# EAGLE library part RASPI_BOARD_AB (library raspberrypi_bastelstube_v13)
Raspberry Pi GPIO connector with markings for the outer dimensions of the Raspberry Pi board model A or B with different sets of drill holes or mounting pads for model B Revision 2.0
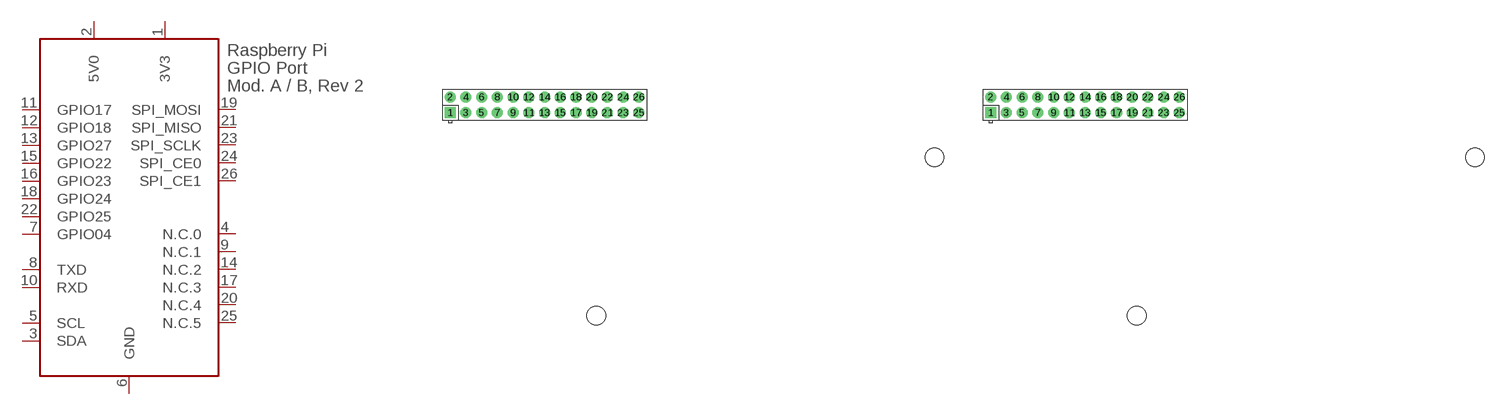
[diagram p1: symbol with the pads of RASPI_BOARD_AB_EDGES_2DRILL; footprints RASPI_BOARD_AB_EDGES_2DRILL, RASPI_BOARD_AB_FULL]

Designator prefix X

## RASPI_BOARD_AB_E2  [RASPI_BOARD_AB_EDGES_2DRILL]
1  3V3  pwr
2  5V0  pwr
3  SDA
4  N.C.0  nc
5  SCL
6  GND  pwr
7  GPIO04
8  TXD
9  N.C.1  nc
10  RXD
11  GPIO17
12  GPIO18
13  GPIO27
14  N.C.2  nc
15  GPIO22
16  GPIO23
17  N.C.3  nc
18  GPIO24
19  SPI_MOSI
20  N.C.4  nc
21  SPI_MISO
22  GPIO25
23  SPI_SCLK
24  SPI_CE0
25  N.C.5  nc
26  SPI_CE1

## RASPI_BOARD_AB_F  [RASPI_BOARD_AB_FULL]
Pads as for RASPI_BOARD_AB_EDGES_2DRILL

## RASPI_BOARD_AB_E1  [RASPI_BOARD_AB_EDGES_1DRILL]
Pads as for RASPI_BOARD_AB_EDGES_2DRILL

## RASPI_BOARD_AB_TD  [RASPI_BOARD_AB_THIN_DRILL]
Pads as for RASPI_BOARD_AB_EDGES_2DRILL

## RASPI_BOARD_AB_E1P  [RASPI_BOARD_AB_EDGES_1DRILL_PAD]
Pads as for RASPI_BOARD_AB_EDGES_2DRILL

## RASPI_BOARD_AB_E2P  [RASPI_BOARD_AB_EDGES_2DRILL_PAD]
Pads as for RASPI_BOARD_AB_EDGES_2DRILL

## RASPI_BOARD_AB_FP  [RASPI_BOARD_AB_FULL_PAD]
Pads as for RASPI_BOARD_AB_EDGES_2DRILL

## RASPI_BOARD_AB_TP  [RASPI_BOARD_AB_THIN_PAD]
Pads as for RASPI_BOARD_AB_EDGES_2DRILL

## RASPI_BOARD_AB_TB  [RASPI_BOARD_AB_THIN_BOT]
Pads as for RASPI_BOARD_AB_EDGES_2DRILL

## RASPI_BOARD_AB_E0  [RASPI_BOARD_AB_EDGES_0DRILL]
Pads as for RASPI_BOARD_AB_EDGES_2DRILL

## RASPI_BOARD_AB_T  [RASPI_BOARD_AB_THIN]
Pads as for RASPI_BOARD_AB_EDGES_2DRILL

## Footprint RASPI_BOARD_AB_EDGES_2DRILL (pad centres in mm)
Raspberry Pi board model A / B, outline is only marked by its edges including 2 drill holes for Model B Revision 2.0
drill 1 pad 1.778 square: 1 1.905,50.8
drill 1 pad 1.778 round: 2 1.905,53.34; 3 4.445,50.8; 4 4.445,53.34; 5 6.985,50.8; 6 6.985,53.34; 7 9.525,50.8; 8 9.525,53.34; 9 12.065,50.8; 10 12.065,53.34; 11 14.605,50.8; 12 14.605,53.34; 13 17.145,50.8; 14 17.145,53.34; 15 19.685,50.8; 16 19.685,53.34; 17 22.225,50.8; 18 22.225,53.34; 19 24.765,50.8; 20 24.765,53.34; 21 27.305,50.8; 22 27.305,53.34; 23 29.845,50.8; 24 29.845,53.34; 25 32.385,50.8; 26 32.385,53.34
hole 3 at 25.5,18
hole 3 at 80.1,43.6

## Footprint RASPI_BOARD_AB_FULL (pad centres in mm)
Raspberry Pi board, full outline with position of big connectors + components including drill holes for Model B Revision 2.0
drill 1 pad 1.778 square: 1 1.905,50.8
drill 1 pad 1.778 round: 2 1.905,53.34; 3 4.445,50.8; 4 4.445,53.34; 5 6.985,50.8; 6 6.985,53.34; 7 9.525,50.8; 8 9.525,53.34; 9 12.065,50.8; 10 12.065,53.34; 11 14.605,50.8; 12 14.605,53.34; 13 17.145,50.8; 14 17.145,53.34; 15 19.685,50.8; 16 19.685,53.34; 17 22.225,50.8; 18 22.225,53.34; 19 24.765,50.8; 20 24.765,53.34; 21 27.305,50.8; 22 27.305,53.34; 23 29.845,50.8; 24 29.845,53.34; 25 32.385,50.8; 26 32.385,53.34
hole 3 at 25.5,18
hole 3 at 80.1,43.6

## Footprint RASPI_BOARD_AB_EDGES_1DRILL (pad centres in mm)
Raspberry Pi board model A / B, outline is only marked by its edges including 1 drill hole for Model B Revision 2.0
drill 1 pad 1.778 square: 1 1.905,50.8
drill 1 pad 1.778 round: 2 1.905,53.34; 3 4.445,50.8; 4 4.445,53.34; 5 6.985,50.8; 6 6.985,53.34; 7 9.525,50.8; 8 9.525,53.34; 9 12.065,50.8; 10 12.065,53.34; 11 14.605,50.8; 12 14.605,53.34; 13 17.145,50.8; 14 17.145,53.34; 15 19.685,50.8; 16 19.685,53.34; 17 22.225,50.8; 18 22.225,53.34; 19 24.765,50.8; 20 24.765,53.34; 21 27.305,50.8; 22 27.305,53.34; 23 29.845,50.8; 24 29.845,53.34; 25 32.385,50.8; 26 32.385,53.34
hole 3 at 80.1,43.6

## Footprint RASPI_BOARD_AB_THIN_DRILL (pad centres in mm)
Raspberry Pi board - Thin version with only the width of the GPIO connector and 1 drill hole
drill 1 pad 1.778 square: 1 1.905,50.8
drill 1 pad 1.778 round: 2 1.905,53.34; 3 4.445,50.8; 4 4.445,53.34; 5 6.985,50.8; 6 6.985,53.34; 7 9.525,50.8; 8 9.525,53.34; 9 12.065,50.8; 10 12.065,53.34; 11 14.605,50.8; 12 14.605,53.34; 13 17.145,50.8; 14 17.145,53.34; 15 19.685,50.8; 16 19.685,53.34; 17 22.225,50.8; 18 22.225,53.34; 19 24.765,50.8; 20 24.765,53.34; 21 27.305,50.8; 22 27.305,53.34; 23 29.845,50.8; 24 29.845,53.34; 25 32.385,50.8; 26 32.385,53.34
hole 3 at 25.5,18

## Footprint RASPI_BOARD_AB_EDGES_1DRILL_PAD (pad centres in mm)
Raspberry Pi board model A / B, outline is only marked by its edges including 1 mounting pad for Model B Revision 2.0
drill 1 pad 1.778 square: 1 1.905,50.8
drill 1 pad 1.778 round: 2 1.905,53.34; 3 4.445,50.8; 4 4.445,53.34; 5 6.985,50.8; 6 6.985,53.34; 7 9.525,50.8; 8 9.525,53.34; 9 12.065,50.8; 10 12.065,53.34; 11 14.605,50.8; 12 14.605,53.34; 13 17.145,50.8; 14 17.145,53.34; 15 19.685,50.8; 16 19.685,53.34; 17 22.225,50.8; 18 22.225,53.34; 19 24.765,50.8; 20 24.765,53.34; 21 27.305,50.8; 22 27.305,53.34; 23 29.845,50.8; 24 29.845,53.34; 25 32.385,50.8; 26 32.385,53.34
drill 3 pad 6.5 round: DRILL_2 80.1,43.6

## Footprint RASPI_BOARD_AB_EDGES_2DRILL_PAD (pad centres in mm)
Raspberry Pi board model A / B, outline is only marked by its edges including 2 mounting pads for Model B Revision 2.0
drill 1 pad 1.778 square: 1 1.905,50.8
drill 1 pad 1.778 round: 2 1.905,53.34; 3 4.445,50.8; 4 4.445,53.34; 5 6.985,50.8; 6 6.985,53.34; 7 9.525,50.8; 8 9.525,53.34; 9 12.065,50.8; 10 12.065,53.34; 11 14.605,50.8; 12 14.605,53.34; 13 17.145,50.8; 14 17.145,53.34; 15 19.685,50.8; 16 19.685,53.34; 17 22.225,50.8; 18 22.225,53.34; 19 24.765,50.8; 20 24.765,53.34; 21 27.305,50.8; 22 27.305,53.34; 23 29.845,50.8; 24 29.845,53.34; 25 32.385,50.8; 26 32.385,53.34
drill 3 pad 6.5 round: DRILL_1 25.5,18; DRILL_2 80.1,43.6

## Footprint RASPI_BOARD_AB_FULL_PAD (pad centres in mm)
Raspberry Pi board, full outline with position of big connectors + components including mounting pads for Model B Revision 2.0
drill 1 pad 1.778 square: 1 1.905,50.8
drill 1 pad 1.778 round: 2 1.905,53.34; 3 4.445,50.8; 4 4.445,53.34; 5 6.985,50.8; 6 6.985,53.34; 7 9.525,50.8; 8 9.525,53.34; 9 12.065,50.8; 10 12.065,53.34; 11 14.605,50.8; 12 14.605,53.34; 13 17.145,50.8; 14 17.145,53.34; 15 19.685,50.8; 16 19.685,53.34; 17 22.225,50.8; 18 22.225,53.34; 19 24.765,50.8; 20 24.765,53.34; 21 27.305,50.8; 22 27.305,53.34; 23 29.845,50.8; 24 29.845,53.34; 25 32.385,50.8; 26 32.385,53.34
drill 3 pad 6.5 round: DRILL_1 25.5,18; DRILL_2 80.1,43.6

## Footprint RASPI_BOARD_AB_THIN_PAD (pad centres in mm)
Raspberry Pi board - Thin version with only the width of the GPIO connector and 1 mounting pad
drill 1 pad 1.778 square: 1 1.905,50.8
drill 1 pad 1.778 round: 2 1.905,53.34; 3 4.445,50.8; 4 4.445,53.34; 5 6.985,50.8; 6 6.985,53.34; 7 9.525,50.8; 8 9.525,53.34; 9 12.065,50.8; 10 12.065,53.34; 11 14.605,50.8; 12 14.605,53.34; 13 17.145,50.8; 14 17.145,53.34; 15 19.685,50.8; 16 19.685,53.34; 17 22.225,50.8; 18 22.225,53.34; 19 24.765,50.8; 20 24.765,53.34; 21 27.305,50.8; 22 27.305,53.34; 23 29.845,50.8; 24 29.845,53.34; 25 32.385,50.8; 26 32.385,53.34
drill 3 pad 6.5 round: DRILL_1 25.5,18

## Footprint RASPI_BOARD_AB_THIN_BOT (pad centres in mm)
Raspberry Pi board - Thin version with only the width of the GPIO connector and 1 drill hole Pads are in "Offset" shape to make them easy to solder from the bottom side for single-side PCBs
drill 0.8 pad 1.778 offset: 1 1.905,50.8; 2 1.905,53.34; 6 6.985,53.34
drill 0.8 pad 1.422 offset: 3 4.445,50.8; 5 6.985,50.8; 7 9.525,50.8; 9 12.065,50.8; 11 14.605,50.8; 13 17.145,50.8; 15 19.685,50.8; 17 22.225,50.8; 19 24.765,50.8; 21 27.305,50.8; 23 29.845,50.8; 25 32.385,50.8
drill 0.8 pad 1.676 offset: 4 4.445,53.34; 8 9.525,53.34; 10 12.065,53.34; 12 14.605,53.34; 14 17.145,53.34; 16 19.685,53.34; 18 22.225,53.34; 20 24.765,53.34; 22 27.305,53.34; 24 29.845,53.34; 26 32.385,53.34
hole 3 at 25.5,18

## Footprint RASPI_BOARD_AB_EDGES_0DRILL (pad centres in mm)
Raspberry Pi board model A / B, outline is only marked by its edges without any drill holes
drill 1 pad 1.778 square: 1 1.905,50.8
drill 1 pad 1.778 round: 2 1.905,53.34; 3 4.445,50.8; 4 4.445,53.34; 5 6.985,50.8; 6 6.985,53.34; 7 9.525,50.8; 8 9.525,53.34; 9 12.065,50.8; 10 12.065,53.34; 11 14.605,50.8; 12 14.605,53.34; 13 17.145,50.8; 14 17.145,53.34; 15 19.685,50.8; 16 19.685,53.34; 17 22.225,50.8; 18 22.225,53.34; 19 24.765,50.8; 20 24.765,53.34; 21 27.305,50.8; 22 27.305,53.34; 23 29.845,50.8; 24 29.845,53.34; 25 32.385,50.8; 26 32.385,53.34

## Footprint RASPI_BOARD_AB_THIN (pad centres in mm)
Raspberry Pi board - Thin version with only the width of the GPIO connector
drill 1 pad 1.778 square: 1 1.905,50.8
drill 1 pad 1.778 round: 2 1.905,53.34; 3 4.445,50.8; 4 4.445,53.34; 5 6.985,50.8; 6 6.985,53.34; 7 9.525,50.8; 8 9.525,53.34; 9 12.065,50.8; 10 12.065,53.34; 11 14.605,50.8; 12 14.605,53.34; 13 17.145,50.8; 14 17.145,53.34; 15 19.685,50.8; 16 19.685,53.34; 17 22.225,50.8; 18 22.225,53.34; 19 24.765,50.8; 20 24.765,53.34; 21 27.305,50.8; 22 27.305,53.34; 23 29.845,50.8; 24 29.845,53.34; 25 32.385,50.8; 26 32.385,53.34